# EAGLE library part OPA4188 (library STM_Library)
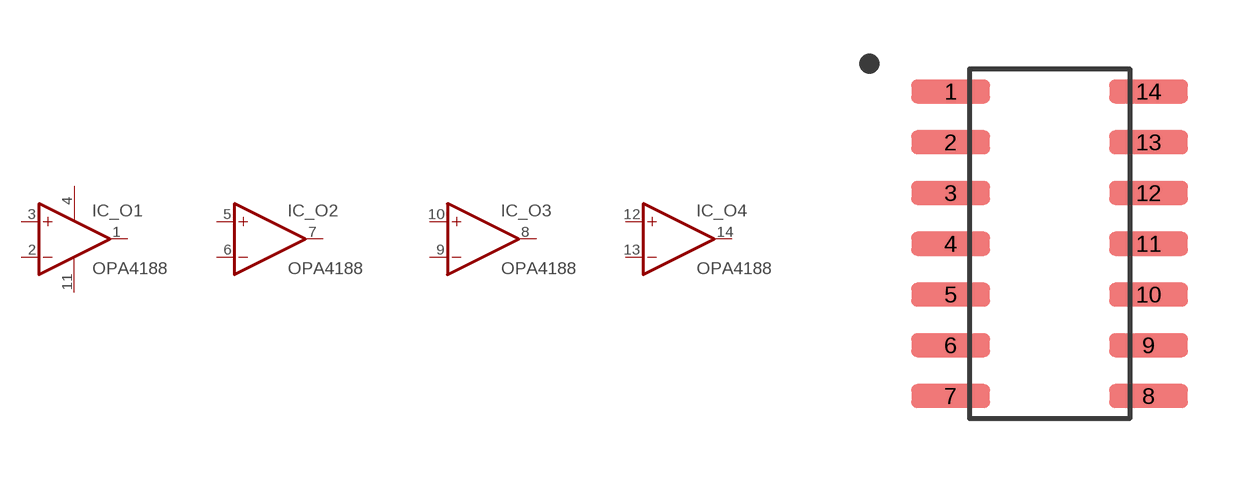
[diagram p1: symbol with the pads of SOIC127P600X175-14N; footprint SOIC127P600X175-14N]

Designator prefix IC; gates _O1=OPAMP+- _O2=OPAMP_GENERIC _O3=OPAMP_GENERIC _O4=OPAMP_GENERIC

## OPA4188  [SOIC127P600X175-14N]
1  _O1:OUT  out
2  _O1:-IN  in
3  _O1:+IN  in
4  _O1:V+  pwr
5  _O2:+IN  in
6  _O2:-IN  in
7  _O2:OUT  out
8  _O3:OUT  out
9  _O3:-IN  in
10  _O3:+IN  in
11  _O1:V-  pwr
12  _O4:+IN  in
13  _O4:-IN  in
14  _O4:OUT  out

## Footprint SOIC127P600X175-14N (pad centres in mm)
smd 1.97 x 0.6: 1 -2.475,3.81; 2 -2.475,2.54; 3 -2.475,1.27; 4 -2.475,0; 5 -2.475,-1.27; 6 -2.475,-2.54; 7 -2.475,-3.81; 8 2.475,-3.81; 9 2.475,-2.54; 10 2.475,-1.27; 11 2.475,0; 12 2.475,1.27; 13 2.475,2.54; 14 2.475,3.81